# Altium schematic symbol library displays.SchLib: 1 symbol
Pins are listed as number, name and electrical type; pins without a type are passive.

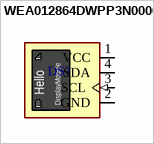
[diagram p0: symbol WEA012864DWPP3N00003]

## WEA012864DWPP3N00003
designator DS?  (value not drawn)
Winstar WEA012864DWPP3N00003 OLED COG 128X64 white 0.96"on PCB I2C; Manufacturer: Winstar Display; Value: *; Supplier Part Number: 4863-WEA012864DWPP3N00003-ND; Supplier: DigiKey; Manufacturer Part Number: WEA012864DWPP3N00003; Package/Case: Tray
footprint OLEDMOD_THT_4P_27P3X27P3_I2C_MH4
pins: 1 VCC (power), 2 GND (power), 3 SCL (in), 4 SDA (io)
text: Hello; DisplayModule